# Altium schematic symbol library IC_74xx04.Schlib: 1 symbol
Pins are listed as number, name and electrical type; pins without a type are passive.

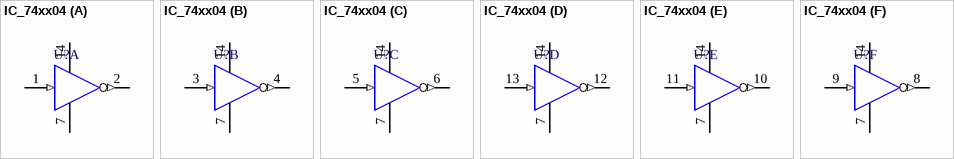
[diagram p0: symbol IC_74xx04]

## IC_74xx04
designator U?
Hex Inverter, 14-Pin PDIP, Commercial Grade
pins on every part: 7 GND (power), 14 VCC (power)
part A pins: 1 A (in), 2 ~{O} (out)
part B pins: 3 A (in), 4 ~{O} (out)
part C pins: 5 A (in), 6 ~{O} (out)
part D pins: 12 ~{O} (out), 13 A (in)
part E pins: 10 ~{O} (out), 11 A (in)
part F pins: 8 ~{O} (out), 9 A (in)